# EAGLE library part SLIDER_5SEG_SHIELD (library PatternAgents-SunLED)
Slider, Passive Type, Five (5) Segments, With Shield (or Proximity) Status : Untested in Production Prototypes due 12/2017 Varients : _SHIELD : Includes Shield/Proximity Ring and Restrict layers Source : http://www.PatternAgents.com Github : https://github.com/PatternAgents License : http://creativecommons.org/licenses/by-sa/3.1/ (Creative Commons 3.1) THIS SOFTWARE IS PROVIDED BY THE CONTRIBUTORS "AS IS" AND WITHOUT ANY EXPRESS OR IMPLIED WARRANTIES, INCLUDING, BUT NOT LIMITED TO, THE IMPLIED WARRANTIES OF MERCHANTABILITY AND FITNESS FOR A PARTICULAR PURPOSE ARE DISCLAIMED. IN NO EVENT SHALL THE COPYRIGHT OWNER OR CONTRIBUTORS BE LIABLE FOR ANY DIRECT, INDIRECT, INCIDENTAL, SPECIAL, EXEMPLARY, OR CONSEQUENTIAL DAMAGES (INCLUDING, BUT NOT LIMITED TO, PROCUREMENT OF SUBSTITUTE GOODS OR SERVICES; LOSS OF USE, DATA, OR PROFITS; OR BUSINESS INTERRUPTION) HOWEVER CAUSED AND ON ANY THEORY OF LIABILITY, WHETHER IN CONTRACT, STRICT LIABILITY, OR TORT (INCLUDING NEGLIGENCE OR OTHERWISE) ARISING IN ANY WAY OUT OF THE USE OF THIS SOFTWARE, EVEN IF ADVISED OF THE POSSIBILITY OF SUCH DAMAGE.
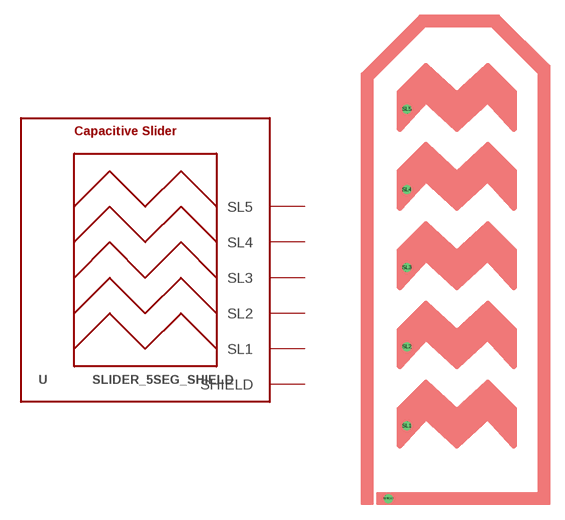
[diagram p1: symbol with the pads of SLIDER_5SEG_SHIELD; footprint SLIDER_5SEG_SHIELD]

Designator prefix -

## SLIDER_5SEG_SHIELD_SHIELD  [SLIDER_5SEG_SHIELD]
SHIELD  SHIELD  pas
SL1  SL1  pas
SL2  SL2  pas
SL3  SL3  pas
SL4  SL4  pas
SL5  SL5  pas

## Footprint SLIDER_5SEG_SHIELD (pad centres in mm)
drill 0.356: SHIELD -6.604,-22.098; SL1 -4.826,-15.113; SL2 -4.826,-7.493; SL3 -4.826,0.127; SL4 -4.826,7.62; SL5 -4.826,15.367